# EAGLE library part M34254(64PIN) (library renesas_mcu)
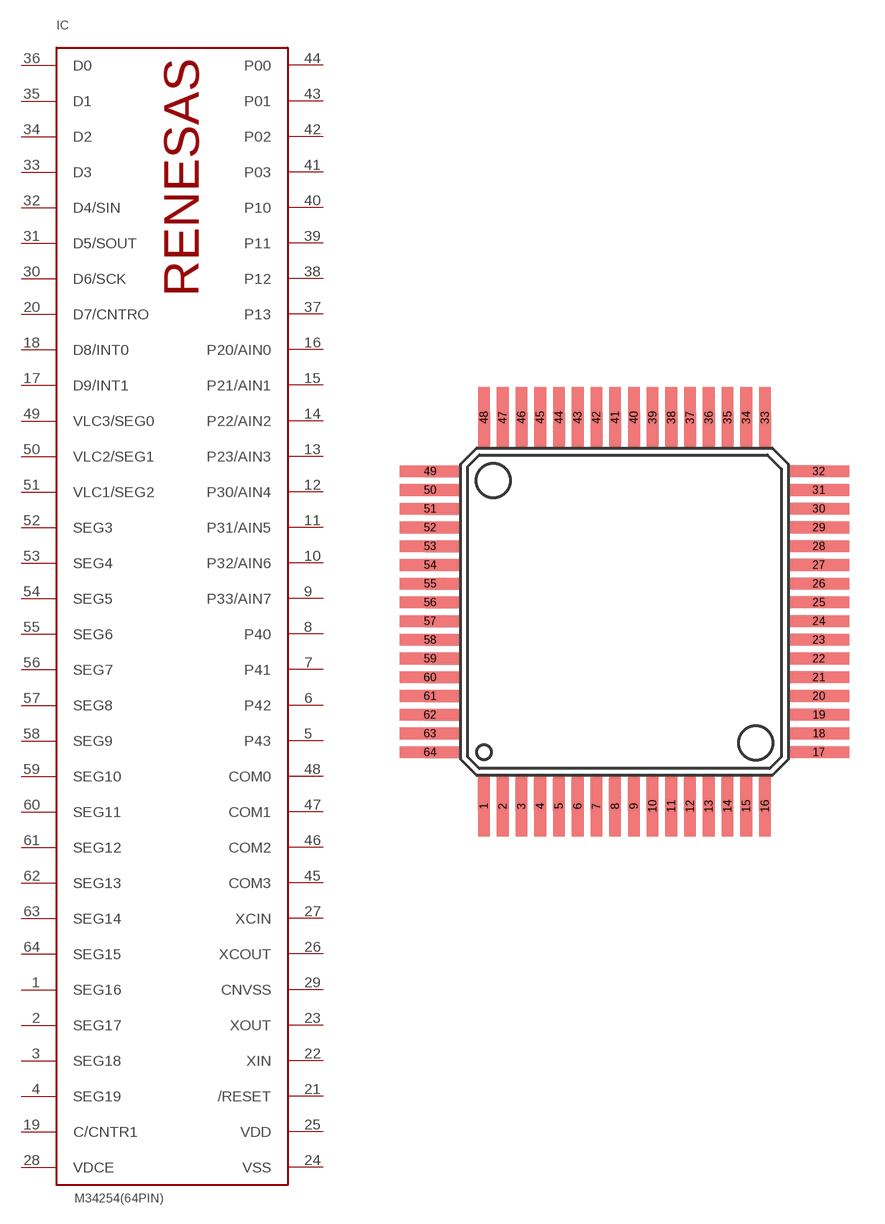
[diagram p49: symbol with the pads of 64P6N-A; footprint 64P6N-A]

Designator prefix IC

## M34254(64PIN)  [64P6N-A]
1  SEG16
2  SEG17
3  SEG18
4  SEG19
5  P43
6  P42
7  P41
8  P40
9  P33/AIN7
10  P32/AIN6
11  P31/AIN5
12  P30/AIN4
13  P23/AIN3
14  P22/AIN2
15  P21/AIN1
16  P20/AIN0
17  D9/INT1
18  D8/INT0
19  C/CNTR1
20  D7/CNTRO
21  /RESET
22  XIN
23  XOUT
24  VSS
25  VDD
26  XCOUT
27  XCIN
28  VDCE
29  CNVSS
30  D6/SCK
31  D5/SOUT
32  D4/SIN
33  D3
34  D2
35  D1
36  D0
37  P13
38  P12
39  P11
40  P10
41  P03
42  P02
43  P01
44  P00
45  COM3
46  COM2
47  COM1
48  COM0
49  VLC3/SEG0
50  VLC2/SEG1
51  VLC1/SEG2
52  SEG3
53  SEG4
54  SEG5
55  SEG6
56  SEG7
57  SEG8
58  SEG9
59  SEG10
60  SEG11
61  SEG12
62  SEG13
63  SEG14
64  SEG15

## Footprint 64P6N-A (pad centres in mm)
smd 0.5 x 2.6: 1 -6,-8.3; 2 -5.2,-8.3; 3 -4.4,-8.3; 4 -3.6,-8.3; 5 -2.8,-8.3; 6 -2,-8.3; 7 -1.2,-8.3; 8 -0.4,-8.3; 9 0.4,-8.3; 10 1.2,-8.3; 11 2,-8.3; 12 2.8,-8.3; 13 3.6,-8.3; 14 4.4,-8.3; 15 5.2,-8.3; 16 6,-8.3; 33 6,8.3; 34 5.2,8.3; 35 4.4,8.3; 36 3.6,8.3; 37 2.8,8.3; 38 2,8.3; 39 1.2,8.3; 40 0.4,8.3; 41 -0.4,8.3; 42 -1.2,8.3; 43 -2,8.3; 44 -2.8,8.3; 45 -3.6,8.3; 46 -4.4,8.3; 47 -5.2,8.3; 48 -6,8.3
smd 2.6 x 0.5: 17 8.3,-6; 18 8.3,-5.2; 19 8.3,-4.4; 20 8.3,-3.6; 21 8.3,-2.8; 22 8.3,-2; 23 8.3,-1.2; 24 8.3,-0.4; 25 8.3,0.4; 26 8.3,1.2; 27 8.3,2; 28 8.3,2.8; 29 8.3,3.6; 30 8.3,4.4; 31 8.3,5.2; 32 8.3,6; 49 -8.3,6; 50 -8.3,5.2; 51 -8.3,4.4; 52 -8.3,3.6; 53 -8.3,2.8; 54 -8.3,2; 55 -8.3,1.2; 56 -8.3,0.4; 57 -8.3,-0.4; 58 -8.3,-1.2; 59 -8.3,-2; 60 -8.3,-2.8; 61 -8.3,-3.6; 62 -8.3,-4.4; 63 -8.3,-5.2; 64 -8.3,-6